# Altium footprint library PcbLib_RC.PcbLib: 34 footprints (part 2 of 3)
Each footprint in its own frame and in the unit in brackets; x right, y up, seen from the top. Pads: shape width x height; smd on the part's side, far side on the other; paste and mask are expansions set on the pad; w line width, h text height; cw(c..) or ccw(c..) is an arc to the next point about the centre after c.
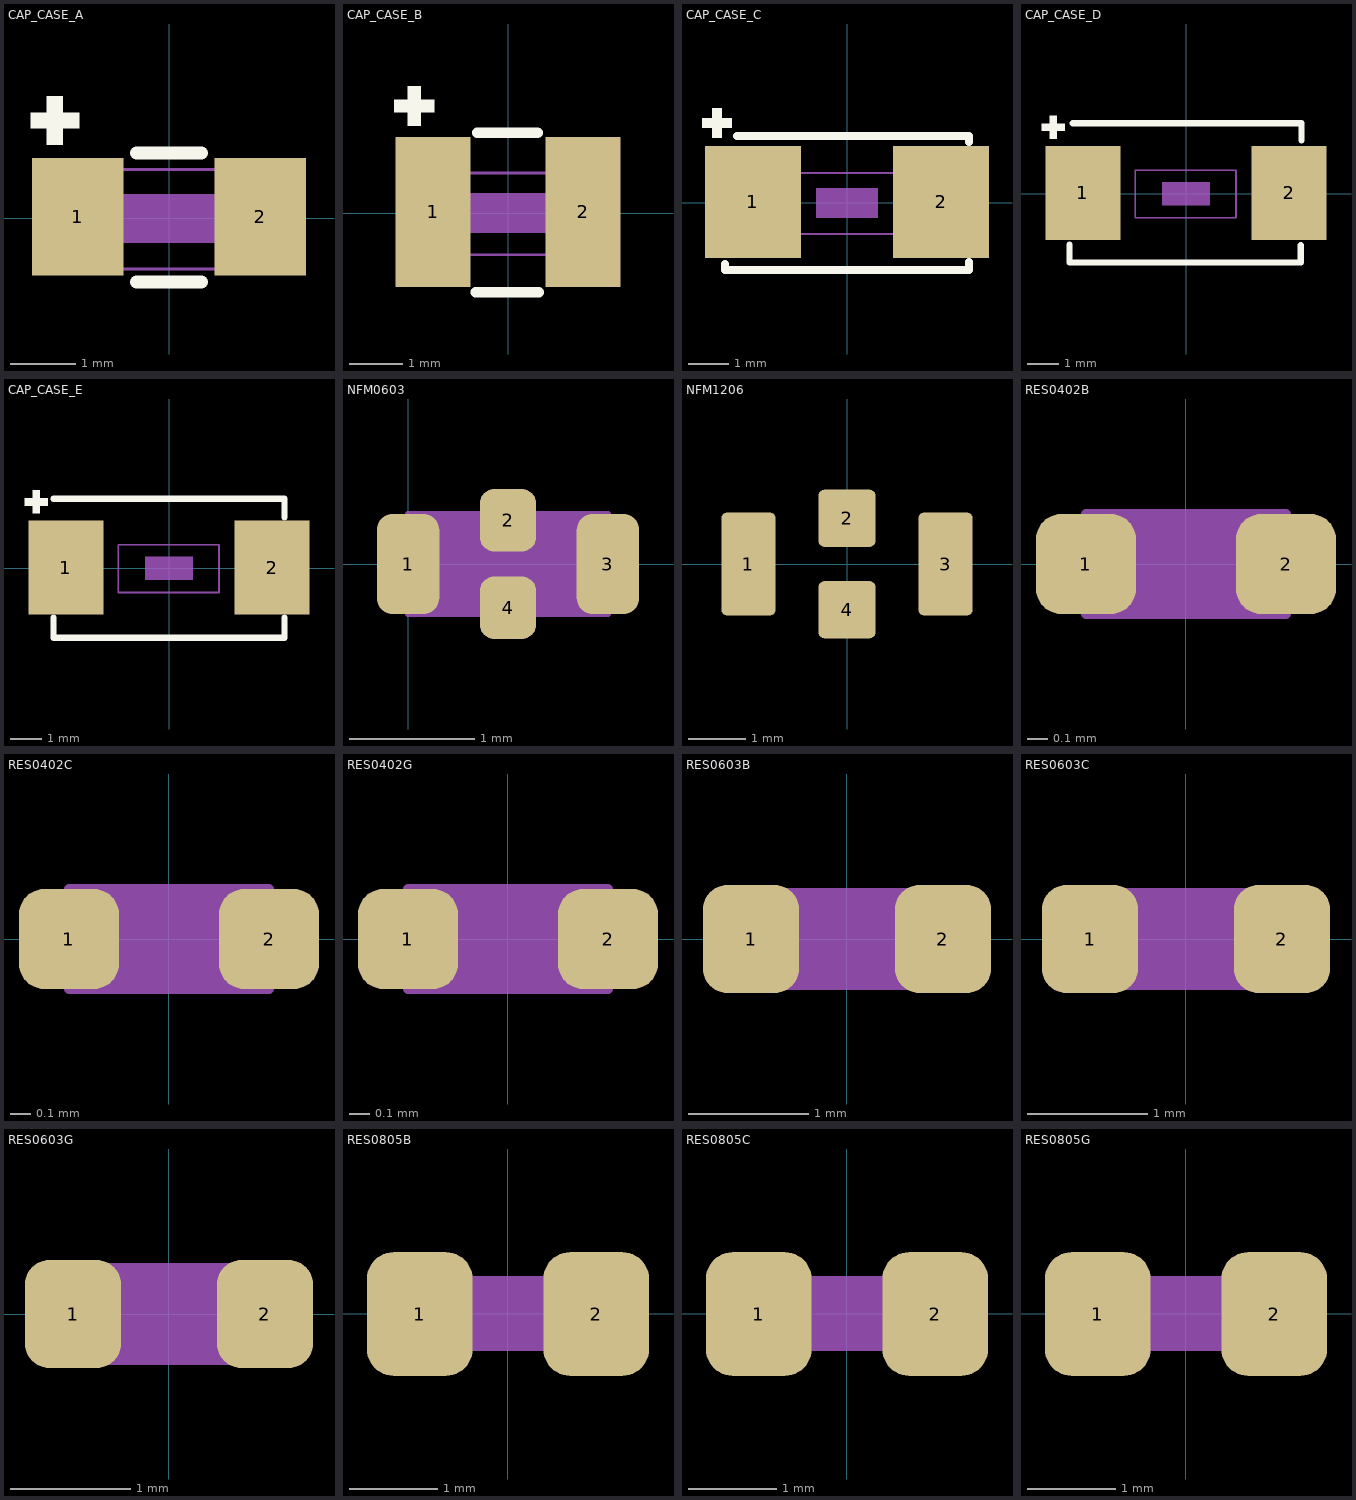
[diagram p1: the footprints below, top view; thin cyan lines are the x and y axes]

## CAP_CASE_A [mm] "Capacitor Case A"
height 0.6
pads (2):
  rect 1.4x1.8 smd: 1(-1.4,0.025) 2(1.4,0.025)
Top Overlay:
  rectangle: -2.125,1.375 -1.375,1.625
  rectangle: -1.875,1.125 -1.625,1.875
  lines w0.2: -0.5,-0.975 0.5,-0.975 ; -0.5,1 0.5,1
Mechanical 3:
  lines w0.05: -1.625,-0.775 -1.625,0.75 1.6,0.75 1.6,-0.775 -1.625,-0.775
  text ".Designator" at -0.7,-0.3 h0.8
Mechanical 4:
  rectangle: -0.775,-0.375 0.775,0.375
3D body "User Library-AVX_A_CASE.step": height 1.71, standoff 0, extent -1.7,-0.765 1.7,0.915

## CAP_CASE_B [mm] "Capacitor Case B"
height 0.6
pads (2):
  rect 1.4x2.8 smd: 1(-1.4,0.025) 2(1.4,0.025)
Top Overlay:
  rectangle: -1.875,1.625 -1.625,2.375
  rectangle: -2.125,1.875 -1.375,2.125
  lines w0.2: -0.6,-1.475 0.575,-1.475 ; -0.575,1.5 0.55,1.5
Mechanical 3:
  lines w0.05: -1.625,-0.775 1.6,-0.775 1.6,0.75 -1.625,0.75 -1.625,-0.775
  text ".Designator" at -0.7,-0.3 h0.8
Mechanical 4:
  rectangle: -0.775,-0.375 0.775,0.375
3D body "User Library-AVX_B_CASE.step": height 2.03, standoff 0, extent -1.875,-1.465 1.825,1.465

## CAP_CASE_C [mm] "Capacitor Case C"
height 0.6
pads (2):
  rect 2.4x2.8 smd: 1(-2.35,0.025) 2(2.35,0.025)
Top Overlay:
  rectangle: -3.625,1.875 -2.875,2.125
  rectangle: -3.375,1.625 -3.125,2.375
  lines w0.2: -3.05,-1.525 -3.05,-1.675 3.05,-1.675 3.05,-1.475 ; -2.75,1.675 3.05,1.675 3.05,1.525
Mechanical 3:
  lines w0.05: -1.625,-0.775 1.6,-0.775 1.6,0.75 -1.625,0.75 -1.625,-0.775
  text ".Designator" at -0.7,-0.3 h0.8
Mechanical 4:
  rectangle: -0.775,-0.375 0.775,0.375
3D body "User Library-AVX_C_CASE.step": height 2.7, standoff 0, extent -3.05,-1.675 3.05,1.675

## CAP_CASE_D [mm] "Capacitor Case D"
height 0.6
pads (2):
  rect 2.4x3 smd: 1(-3.3,0.025) 2(3.3,0.025)
Top Overlay:
  rectangle: -4.375,1.75 -4.125,2.5
  rectangle: -4.625,2 -3.875,2.25
  lines w0.2: -3.725,-1.625 -3.725,-2.2 3.675,-2.2 3.675,-1.65 ; -3.625,2.25 3.7,2.25 3.7,1.7
Mechanical 3:
  lines w0.05: -1.625,-0.775 1.6,-0.775 1.6,0.75 -1.625,0.75 -1.625,-0.775
  text ".Designator" at -0.7,-0.3 h0.8
Mechanical 4:
  rectangle: -0.775,-0.375 0.775,0.375
3D body "User Library-AVX_D_CASE.step": height 3.01, standoff 0, extent -3.7,-2.225 3.7,2.225

## CAP_CASE_E [mm] "Capacitor Case E"
height 0.6
pads (2):
  rect 2.4x3 smd: 1(-3.3,0.025) 2(3.3,0.025)
Top Overlay:
  rectangle: -4.375,1.75 -4.125,2.5
  rectangle: -4.625,2 -3.875,2.25
  lines w0.2: -3.7,-1.575 -3.7,-2.225 3.7,-2.225 3.7,-1.575 ; -3.7,2.225 3.7,2.225 3.7,1.625
Mechanical 3:
  lines w0.05: -1.625,-0.775 1.6,-0.775 1.6,0.75 -1.625,0.75 -1.625,-0.775
  text ".Designator" at -0.7,-0.3 h0.8
Mechanical 4:
  rectangle: -0.775,-0.375 0.775,0.375
3D body "User Library-AVX_E_CASE.step": height 4.2, standoff 0, extent -3.7,-2.225 3.7,2.225

## NFM0603 [mm] "3-terminal capacitor"
height 0.8
pads (4):
  rrect50% 0.5x0.8 smd mask+0.05: 1(0,0) 3(1.6,0)
  rrect50% 0.45x0.5 smd mask+0.05: 2(0.8,0.35) 4(0.8,-0.35)
Mechanical 3:
  lines w0.05: 0,-0.4 0,0.4 1.6,0.4 1.6,-0.4 0,-0.4
Mechanical 4:
  region: 0.025,0.375 0.025,-0.375 1.575,-0.375 1.575,0.375
3D body "User Library-EMIFIL_0603.step": height 0.6, standoff 0, extent 0,-0.409 1.6,0.409

## NFM1206 [mm] "3-terminal capacitor"
height 0.8
pads (4):
  rrect20% 0.95x1.8 smd mask+0.05: 1(-1.725,0) 3(1.725,0)
  rrect20% 1x1 smd mask+0.05: 2(0,0.8) 4(0,-0.8)
3D body "User Library-NFM31PC.step": height 1.4, standoff -0.05, extent -1.775,-0.9 1.825,0.9

## RES0402B [mm]
height 0.6
pads (2):
  rrect50% 0.5x0.5 smd: 1(-0.5,0) 2(0.5,0)
Mechanical 3:
  lines w0.05: -0.5,-0.25 -0.5,0.25 0.5,0.25 0.5,-0.25 -0.5,-0.25
  text ".Designator" at -0.275,-0.15 h0.5
Mechanical 4:
  region: -0.475,0.225 -0.475,-0.225 0.475,-0.225 0.475,0.225
3D body "RESC-0402-Black.STEP": height 0.41, standoff 0, extent -0.525,-0.275 0.525,0.275

## RES0402C [mm]
height 0.6
pads (2):
  rrect50% 0.5x0.5 smd: 1(-0.5,0) 2(0.5,0)
Mechanical 3:
  lines w0.05: -0.5,-0.25 0.5,-0.25 0.5,0.25 -0.5,0.25 -0.5,-0.25
  text ".Designator" at -0.275,-0.15 h0.5
Mechanical 4:
  region: -0.475,0.225 -0.475,-0.225 0.475,-0.225 0.475,0.225
3D body "RESC-0402-Cyan.STEP": height 0.41, standoff 0, extent -0.525,-0.275 0.525,0.275

## RES0402G [mm]
height 0.6
pads (2):
  rrect50% 0.5x0.5 smd: 1(-0.5,0) 2(0.5,0)
Mechanical 3:
  lines w0.05: -0.5,-0.25 0.5,-0.25 0.5,0.25 -0.5,0.25 -0.5,-0.25
  text ".Designator" at -0.275,-0.15 h0.5
Mechanical 4:
  region: -0.475,0.225 -0.475,-0.225 0.475,-0.225 0.475,0.225
3D body "RESC-0402-Green.STEP": height 0.41, standoff 0, extent -0.525,-0.275 0.525,0.275

## RES0603B [mm] "Resistor 0603"
height 0.6
pads (2):
  rrect50% 0.8x0.9 smd: 1(-0.8,0) 2(0.8,0)
Mechanical 3:
  lines w0.05: -0.8,-0.4 0.8,-0.4 0.8,0.4 -0.8,0.4 -0.8,-0.4
  text ".Designator" at -0.7,-0.3 h0.8
Mechanical 4:
  rectangle: -0.775,-0.375 0.775,0.375
3D body "RESC-0603-Black.STEP": height 0.56, standoff 0, extent -0.85,-0.45 0.85,0.45

## RES0603C [mm] "Resistor 0603"
height 0.6
pads (2):
  rrect50% 0.8x0.9 smd: 1(-0.8,0) 2(0.8,0)
Mechanical 3:
  lines w0.05: -0.8,-0.4 -0.8,0.4 0.8,0.4 0.8,-0.4 -0.8,-0.4
  text ".Designator" at -0.7,-0.3 h0.8
Mechanical 4:
  rectangle: -0.775,-0.375 0.775,0.375
3D body "RESC-0603-Cyan.STEP": height 0.56, standoff 0, extent -0.825,-0.45 0.875,0.45

## RES0603G [mm] "Resistor 0603"
height 0.6
pads (2):
  rrect50% 0.8x0.9 smd: 1(-0.8,0) 2(0.8,0)
Mechanical 3:
  lines w0.05: -0.8,-0.4 0.8,-0.4 0.8,0.4 -0.8,0.4 -0.8,-0.4
  text ".Designator" at -0.7,-0.3 h0.8
Mechanical 4:
  rectangle: -0.775,-0.375 0.775,0.375
3D body "RESC-0603-Green.STEP": height 0.56, standoff 0, extent -0.825,-0.45 0.875,0.45

## RES0805B [mm] "Resistor 0603"
height 0.6
pads (2):
  rrect50% 1.2x1.4 smd: 1(-1,-0.005) 2(1,-0.005)
Mechanical 3:
  lines w0.05: -0.8,-0.4 0.8,-0.4 0.8,0.4 -0.8,0.4 -0.8,-0.4
  text ".Designator" at -0.7,-0.3 h0.8
Mechanical 4:
  rectangle: -0.775,-0.375 0.775,0.375
3D body "RESC-0805-Black.STEP": height 0.61, standoff 0, extent -1.075,-0.675 1.025,0.675

## RES0805C [mm] "Resistor 0603"
height 0.6
pads (2):
  rrect50% 1.2x1.4 smd: 1(-1,-0.005) 2(1,-0.005)
Mechanical 3:
  lines w0.05: -0.8,-0.4 0.8,-0.4 0.8,0.4 -0.8,0.4 -0.8,-0.4
  text ".Designator" at -0.7,-0.3 h0.8
Mechanical 4:
  rectangle: -0.775,-0.375 0.775,0.375
3D body "RESC-0805-Cyan.STEP": height 0.61, standoff 0, extent -1.05,-0.675 1.05,0.675

## RES0805G [mm] "Resistor 0603"
height 0.6
pads (2):
  rrect50% 1.2x1.4 smd: 1(-1,-0.005) 2(1,-0.005)
Mechanical 3:
  lines w0.05: -0.8,-0.4 0.8,-0.4 0.8,0.4 -0.8,0.4 -0.8,-0.4
  text ".Designator" at -0.7,-0.3 h0.8
Mechanical 4:
  rectangle: -0.775,-0.375 0.775,0.375
3D body "RESC-0805-Green.STEP": height 0.61, standoff 0, extent -1.05,-0.675 1.05,0.675